# Altium schematic symbol library DC-DC.SchLib: 2 symbols
Pins are listed as number, name and electrical type; pins without a type are passive.

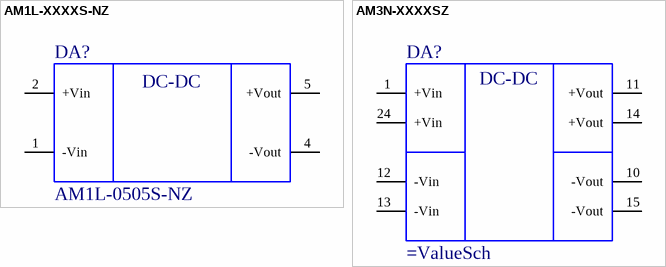
[diagram p0: symbols AM1L-XXXXS-NZ to AM3N-XXXXSZ]

## AM1L-XXXXS-NZ
designator DA?, comment AM1L-0505S-NZ
ValueSch: AM1L-0505S-NZ
pins: 1 -Vin (power), 2 +Vin (power), 4 -Vout (power), 5 +Vout (power)
text: DC-DC

## AM3N-XXXXSZ
designator DA?
pins: 1 +Vin (power), 10 -Vout (power), 11 +Vout (power), 12 -Vin (power), 13 -Vin (power), 14 +Vout (power), 15 -Vout (power), 24 +Vin (power)
text: DC-DC